# Altium schematic symbol library transistors.SchLib: 13 symbols
Pins are listed as number, name and electrical type; pins without a type are passive.

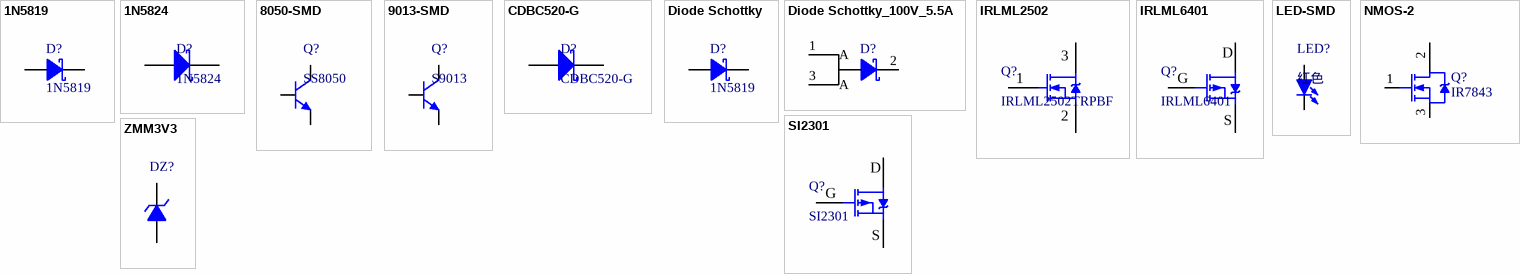
[diagram p0: symbols 1N5819 to ZMM3V3]

## 1N5819
designator D?
肖特基二极管; Imax: 500mA; Published: 8-Jun-2000; Revision: July-2002: Re-released for DXP Platform.; Publisher: Altium Limited; Price(RMB): 0.000; PartNumber: 1N5819
footprint SMB[DO-214AA] (Molded Diode, 2-Leads, Body 5.30x3.55mm, IPC Medium Density)
footprint SMC[DO-214AB] (Molded Diode, 2-Leads, Body 7.94x5.90mm, IPC Medium Density)
footprint SOD-123 (SOD Diode;2.70mm W X 1.60mm L X 1.35mm H body)
footprint SOD-323 (SOD Diode;1.65mm W X 1.24mm L X 1.16mm H body)
footprint SOD-523 (SODFL Diode;1.20mm W X 0.80mm L X 0.70mm H body)
footprint SMA[DO-214AC] (Molded Diode, 2-Leads, Body 5.00x2.49mm, IPC Medium Density)
footprint SOD-123-L (SOD Diode;2.70mm W X 1.60mm L X 1.35mm H body)
footprint SOD-523-L (SODFL Diode;1.20mm W X 0.80mm L X 0.70mm H body)
pins: A, K

## 1N5824
designator D?
肖特基二极管; 淘宝ID: 封装库来自淘宝 ID：黄晶宝石; 属性: 40V/2A; BOM名称: 肖特基二极管; 欢迎光临: https://shop463601444.taobao.com
footprint SMA (4.5x2.6*2.2mm（长宽高，不包括引脚）)
pins: 1 A, 2 K

## 8050-SMD
designator Q?, comment SS8050
高频放大-NPN型; 版权归属: 封装库来自淘宝 ID：黄晶宝石; 属性: 40V 1.5A 1W 100MHZ; BOM名称: 高频放大-NPN型; 联系售后: https://shop463601444.taobao.com
footprint SOT23-3N (3x1.3x1mm(长宽高))
footprint SOT23-3L (3x1.3x1mm(长宽高))
footprint SOT23-3M (3x1.3x1mm(长宽高))
pins: 1 B, 2 E, 3 C

## 9013-SMD
designator Q?, comment S9013
低频放大-NPN型; 版权归属: 封装库来自淘宝 ID：黄晶宝石; 属性: 50V?0.5A?0.625W; BOM名称: 低频放大-NPN型; 学习资源: https://shop463601444.taobao.com联系售后
footprint SOT23-3N (3x1.3x1mm(长宽高))
footprint SOT23-3L (3x1.3x1mm(长宽高))
footprint SOT23-3M (3x1.3x1mm(长宽高))
pins: 1 B, 2 E, 3 C

## CDBC520-G
designator D?
Comchip Technology CDBC520-G Type: Schottky  VRRM: 20 V  Io: 5 A; BOM名称: 肖特基二极管; 淘宝ID: 封装库来自淘宝 ID：黄晶宝石; 属性: 40V/2A; 欢迎光临: https://shop463601444.taobao.com
footprint SMA (4.5x2.6*2.2mm（长宽高，不包括引脚）)
pins: 1 A, 2 K

## Diode Schottky
designator D?, comment 1N5819
肖特基二极管 Diode; Imax: 500mA; Published: 8-Jun-2000; Revision: July-2002: Re-released for DXP Platform.; Publisher: Altium Limited; Price(RMB): 0.000; PartNumber: 1N5819
footprint SMB[DO-214AA] (Molded Diode, 2-Leads, Body 5.30x3.55mm, IPC Medium Density)
footprint SMC[DO-214AB] (Molded Diode, 2-Leads, Body 7.94x5.90mm, IPC Medium Density)
footprint SOD-123 (SOD Diode;2.70mm W X 1.60mm L X 1.35mm H body)
footprint SOD-323 (SOD Diode;1.65mm W X 1.24mm L X 1.16mm H body)
footprint SOD-523 (SODFL Diode;1.20mm W X 0.80mm L X 0.70mm H body)
footprint SMA[DO-214AC] (Molded Diode, 2-Leads, Body 5.00x2.49mm, IPC Medium Density)
footprint SOD-123-L (SOD Diode;2.70mm W X 1.60mm L X 1.35mm H body)
footprint SOD-523-L (SODFL Diode;1.20mm W X 0.80mm L X 0.70mm H body)
pins: A, K

## Diode Schottky_100V_5.5A
designator D?, comment 50WQ10FNPBF  (value not drawn)
Vishay-Semiconductor 50WQ10FNPBF Type: Schottky  VRRM: 100 V  Io: 5.5 A /; Imax: 500mA; Published: 8-Jun-2000; Revision: July-2002: Re-released for DXP Platform.; Publisher: Altium Limited; Price(RMB): 0.000
footprint D-PAK (D-PAK  / SOT-428 / TO252 - 3)
pins: 1 A, 2 K, 3 A

## IRLML2502
designator Q?, comment IRLML2502TRPBF
N沟道场效应管
footprint SOT23-3N (3x1.3x1mm(长宽高))
footprint SOT23-3L (3x1.3x1mm(长宽高))
footprint SOT23-3M (3x1.3x1mm(长宽高))
pins: 1 G, 2 S, 3 D

## IRLML6401
designator Q?
P沟道场效应管
footprint SOT23-3N (3x1.3x1mm(长宽高))
footprint SOT23-3L (3x1.3x1mm(长宽高))
footprint SOT23-3M (3x1.3x1mm(长宽高))
pins: 1 G, 2 S, 3 D

## LED-SMD
designator LED?, comment 红色
贴片LED; 版权归属: 封装库来自淘宝 ID：黄晶宝石; BOM名称: 贴片LED; 学习资源: https://shop463601444.taobao.com
footprint LED 0603W (白色0603LED)
footprint LED 0603R (红色0603LED)
footprint LED 0603B (蓝色0603LED)
footprint LED 0603G (绿色0603LED)
footprint LED 0603Y (黄色0603LED)
footprint LED 0805G (绿色0805LED)
footprint LED 0805R (红色0805LED)
footprint LED 0805B (蓝色0805LED)
footprint LED 0805Y (黄色0805LED)
footprint LED 3528-2Pin (2脚，3528LED)
footprint LED 1206G (绿色1206LED)
footprint LED 5730-V (紫色5730LED)
footprint LED 1206Y (黄色1206LED)
footprint LED 0805W (白色0805LED)
footprint LED 1206B (蓝色1206LED)
footprint LED 1206W (白色1206LED)
footprint LED 1206R (红色1206LED)
pins: 1 A, 2 K

## NMOS-2
designator Q?, comment IR7843
N-Channel Power MOSFET; Note: Pin 2 is electrically connected to pin 4.; Published: 8-Jun-2000; LatestRevisionDate: 17-Jul-2002; LatestRevisionNote: Re-released for DXP Platform.; DatasheetVersion: PD-9.814; PackageVersion: Feb-1997; PackageReference: TO-220AB; Publisher: Altium Limited; PackageDescription: TO, Thru-Hole, Vertical, Heatsink Mounted; 3 In-Line Leads; Pitch 2.54 mm; ComponentLink1Description: Manufacturer Link; ComponentLink1URL: http://www.irf.com/
footprint LR7843
pins: 1 G, 2 D, 3 S

## SI2301
designator Q?
P沟道场效应管; 技术支持，联系售后: 封装库来自淘宝 ID：黄晶宝石; BOM名称: P沟道场效应管; 学习资源: https://shop463601444.taobao.com
footprint SOT23-3N (3x1.3x1mm(长宽高))
footprint SOT23-3L (3x1.3x1mm(长宽高))
footprint SOT23-3M (3x1.3x1mm(长宽高))
pins: 1 G, 2 S, 3 D

## ZMM3V3
designator DZ?
3.3V/0.5W稳压管; 版权归属: 封装库来自淘宝 ID：黄晶宝石; BOM名称: 3V/0.5W稳压管; 学习资源: www.ooocke.com
footprint LL34 (1.5*3.4mm(直径，脚距）)
pins: 1 A, 2 K